# EAGLE library part CH340G (library IC & Transistor)
SMD USB UART CH340.
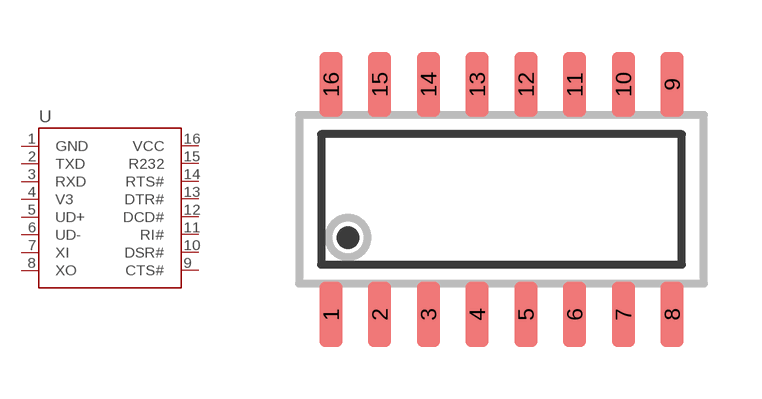
[diagram p49: symbol with the pads of SOIC-16N; footprint SOIC-16N]

Designator prefix -

## CH340G_(SOIC-16N) (CYTRON-PC: S-IC-CH340G-SO16; DESC: S USB UART CH340G SOIC16; MF: WCH; MPN: CH340G), CH340G_CH340C_(SOIC-16N) (CYTRON-PC: S-IC-CH340C-SO16; DESC: S USB UART CH340C SOIC16; MF: WCH; MPN: CH340C)  [SOIC-16N]
1  GND  pwr
2  TXD
3  RXD
4  V3
5  UD+
6  UD-
7  XI
8  XO
9  CTS#
10  DSR#
11  RI#
12  DCD#
13  DTR#
14  RTS#
15  R232
16  VCC  pwr

## Footprint SOIC-16N (pad centres in mm)
Small Outline Integrated Circuit (SOIC) Narrow (JEDEC) SOIC Package Size: 9.90 x 3.90mm / 10.55 x 4.4mm Lead Pitch: 1.27mm Created by: OoiBP
smd 0.6 x 1.7: 1 -4.445,-3; 2 -3.175,-3; 3 -1.905,-3; 4 -0.635,-3; 5 0.635,-3; 6 1.905,-3; 7 3.175,-3; 8 4.445,-3; 9 4.445,3; 10 3.175,3; 11 1.905,3; 12 0.635,3; 13 -0.635,3; 14 -1.905,3; 15 -3.175,3; 16 -4.445,3